# Altium integrated library TI Power Management DC-DC Controller (External Switch).IntLib: 349 symbols (part 27 of 28)
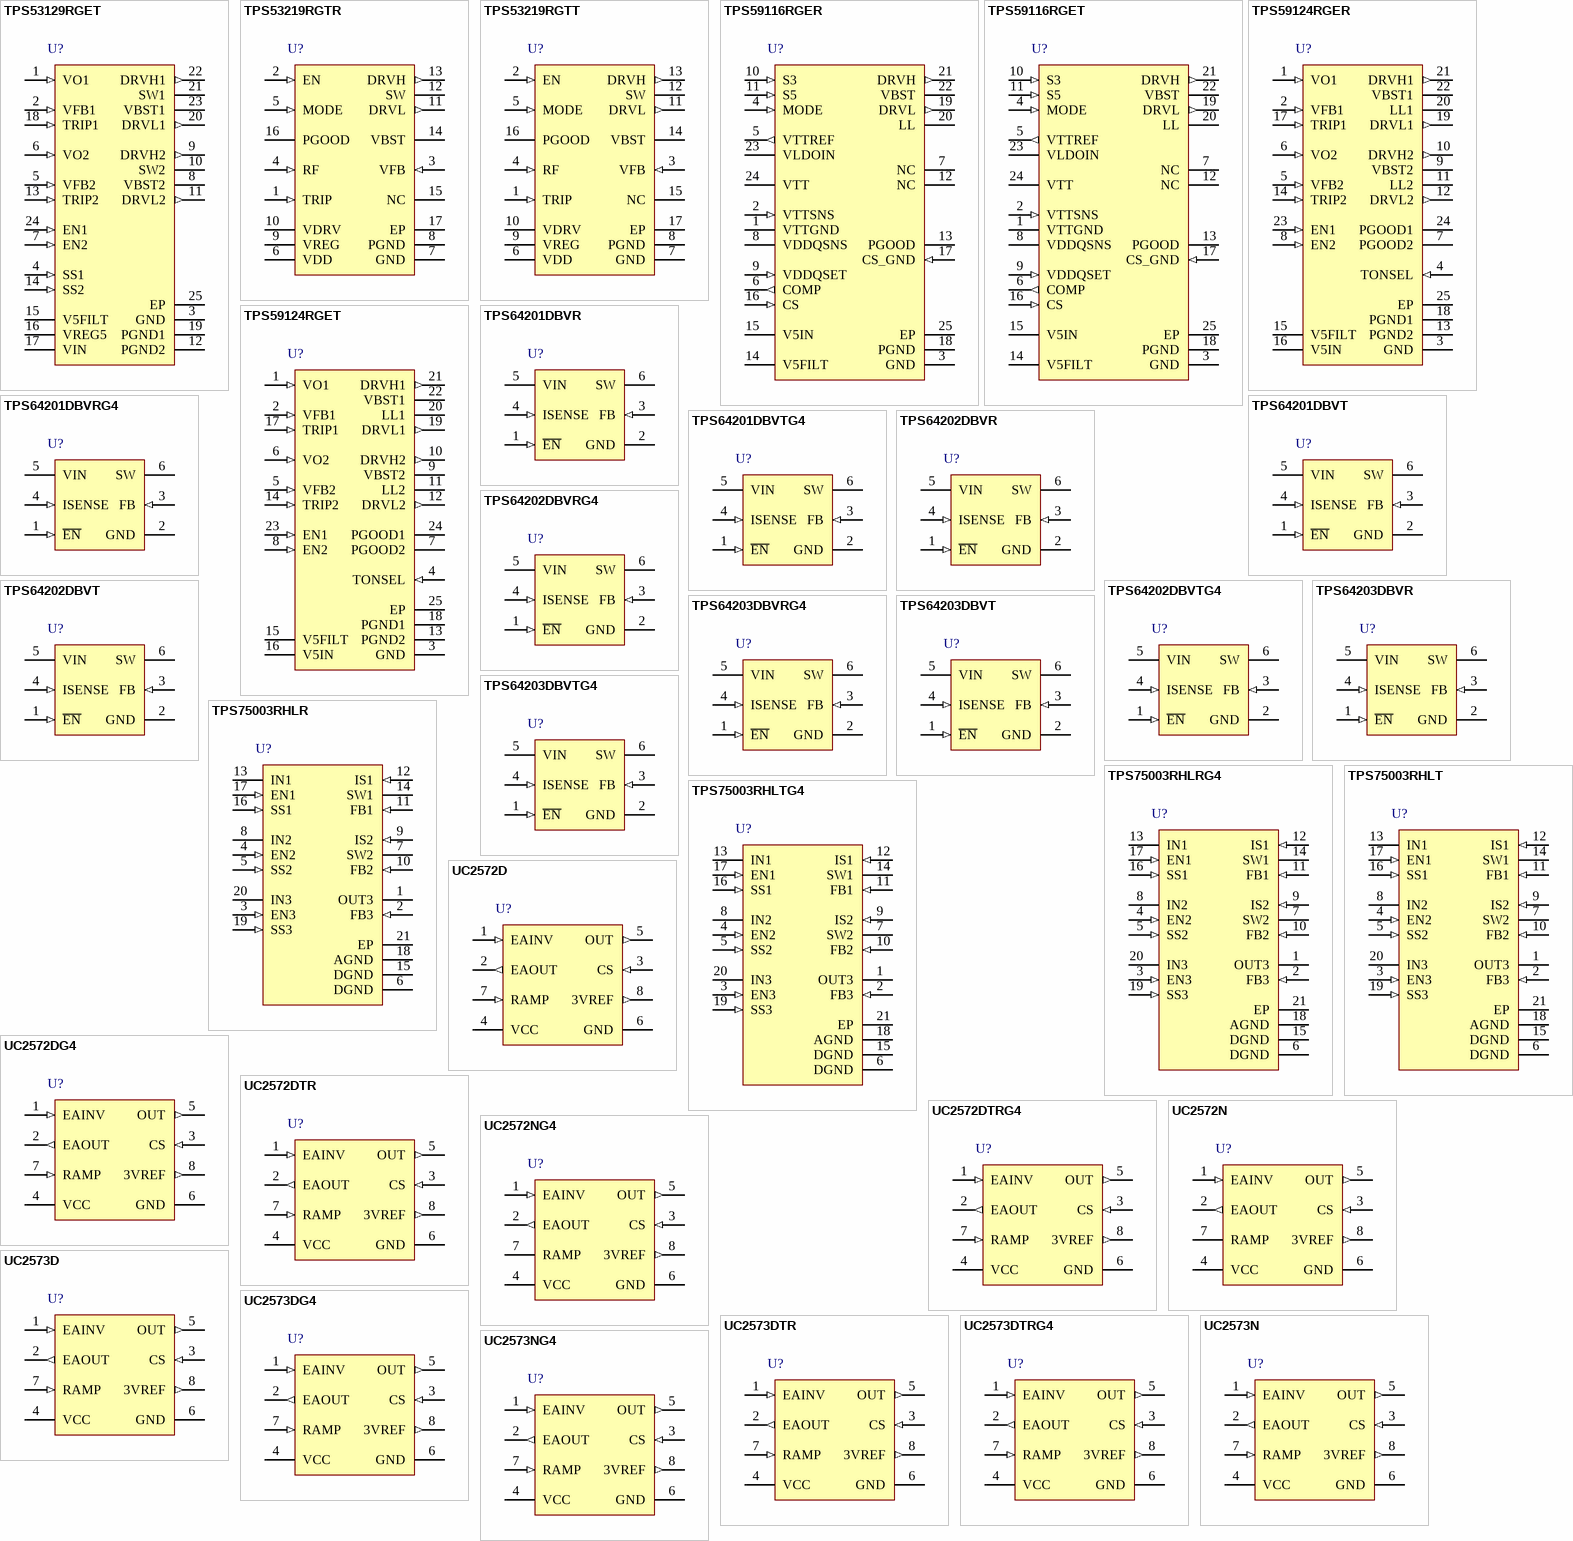
[diagram p40: symbols TPS53129RGET to UC2573NG4]

## UC2572DTR
designator U?
Negative Output Flyback Pulse Width Modulator, 100 % Duty Cycle, 4.2 to 35 V, -40 to 85 degC, 8-pin SOIC (D), Green (RoHS & no Sb/Br); Manufacturer: Texas Instruments; PartNumber: UC2572DTR; Duty Cycle(Max)(%): 100; Iout(Max)(A): 0.5; Regulated Outputs(#): 1; SubFamily: Buck-Boost, Inverting Switching Controller; Switching Frequency(Max)(kHz): 300; Vin(Max)(V): 35; Vin(Min)(V): 4.2; Vout(Max)(V): -1; Vout(Min)(V): -70; DatasheetVersion: SLUS275A; PackageVersion: revM, Jun-2011; PackageReference: D8; PackageDescription: 8-Pin Plastic Small Outline Integrated Circuit, 4.9 x 3.9 mm, Pitch 1.27 mm Pitch; Supplier 1: Digi-Key; Supplier Part Number 1: UC2572DTR-ND; Supplier 2: Newark; Supplier Part Number 2: 77C2813; Supplier 3: Mouser; Supplier Part Number 3: 595-UC2572DTR; Eco-Plan: Green (RoHS & no Sb/Br); Topology: Flyback; Mounting Technology: Surface Mount; Code_JEDEC: MS-012AA; ComponentLink1Description: Datasheet; ComponentLink1URL: http://www.ti.com/general/docs/lit/getliterature.tsp?genericPartNumber=UC2572&fileType=pdf; ComponentLink2Description: Package Specification; ComponentLink2URL: http://www.ti.com/litv/pdf/msoi002j
footprint D8_N (SOIC, 8-Leads, Body 4.9x3.9mm, Pitch 1.27mm, IPC Medium Density)
footprint D8_L (SOIC, 8-Leads, Body 4.9x3.9mm, Pitch 1.27mm, IPC High Density)
footprint D8_M (SOIC, 8-Leads, Body 4.9x3.9mm, Pitch 1.27mm, IPC Low Density)
pins: 1 EAINV (in) "Inverting input to error amplifier. Summing junction for 3VREF and VOUT sense. The non-inverting input of the error amplifier is internally connected to GND. This pin will source a maximum of 1mA.", 2 EAOUT (out) "Output of error amplifier. Use EAOUT and EAINV for loop compensation components.", 3 CS (in) "Current limit sense pin. Connect to a ground referenced current sense resistor in series with the flyback inductor. OUT will be held high (PMOS switch off) if CS exceeds 0.2V.", 4 VCC (power) "Input voltage supply to chip. Range is 4.75 to 30V. Bypass with a 1uF capacitor", 5 OUT (out) "Gate drive for external PMOS switch connected between VCC and the flyback inductor. OUT drives the gate of the PMOS switch between VCC and GND", 6 GND (power) "Circuit Ground.", 7 RAMP (in) "Oscillator and ramp for pulse width modulator.Frequency is set by a capacitor to GND by the equation F=1/15K·CRAMP Recommended operating frequency range is 10kHz to 200kHz.", 8 3VREF (out) "Precision 3V reference. Bypass with 100nF capacitor to GND."

## UC2572DTRG4
designator U?
Negative Output Flyback Pulse Width Modulator, 100 % Duty Cycle, 4.2 to 35 V, -40 to 85 degC, 8-pin SOIC (D), Green (RoHS & no Sb/Br); Manufacturer: Texas Instruments; PartNumber: UC2572DTRG4; Duty Cycle(Max)(%): 100; Iout(Max)(A): 0.5; Regulated Outputs(#): 1; SubFamily: Buck-Boost, Inverting Switching Controller; Switching Frequency(Max)(kHz): 300; Vin(Max)(V): 35; Vin(Min)(V): 4.2; Vout(Max)(V): -1; Vout(Min)(V): -70; DatasheetVersion: SLUS275A; PackageVersion: revM, Jun-2011; PackageReference: D8; PackageDescription: 8-Pin Plastic Small Outline Integrated Circuit, 4.9 x 3.9 mm, Pitch 1.27 mm Pitch; Supplier 1: Digi-Key; Supplier Part Number 1: UC2572DTRG4-ND; Supplier 2: Newark; Supplier Part Number 2: 54K2249; Supplier 3: Mouser; Supplier Part Number 3: 595-UC2572DTRG4; Eco-Plan: Green (RoHS & no Sb/Br); Topology: Flyback; Mounting Technology: Surface Mount; Code_JEDEC: MS-012AA; ComponentLink1Description: Datasheet; ComponentLink1URL: http://www.ti.com/general/docs/lit/getliterature.tsp?genericPartNumber=UC2572&fileType=pdf; ComponentLink2Description: Package Specification; ComponentLink2URL: http://www.ti.com/litv/pdf/msoi002j
footprint D8_N (SOIC, 8-Leads, Body 4.9x3.9mm, Pitch 1.27mm, IPC Medium Density)
footprint D8_L (SOIC, 8-Leads, Body 4.9x3.9mm, Pitch 1.27mm, IPC High Density)
footprint D8_M (SOIC, 8-Leads, Body 4.9x3.9mm, Pitch 1.27mm, IPC Low Density)
pins: 1 EAINV (in) "Inverting input to error amplifier. Summing junction for 3VREF and VOUT sense. The non-inverting input of the error amplifier is internally connected to GND. This pin will source a maximum of 1mA.", 2 EAOUT (out) "Output of error amplifier. Use EAOUT and EAINV for loop compensation components.", 3 CS (in) "Current limit sense pin. Connect to a ground referenced current sense resistor in series with the flyback inductor. OUT will be held high (PMOS switch off) if CS exceeds 0.2V.", 4 VCC (power) "Input voltage supply to chip. Range is 4.75 to 30V. Bypass with a 1uF capacitor", 5 OUT (out) "Gate drive for external PMOS switch connected between VCC and the flyback inductor. OUT drives the gate of the PMOS switch between VCC and GND", 6 GND (power) "Circuit Ground.", 7 RAMP (in) "Oscillator and ramp for pulse width modulator.Frequency is set by a capacitor to GND by the equation F=1/15K·CRAMP Recommended operating frequency range is 10kHz to 200kHz.", 8 3VREF (out) "Precision 3V reference. Bypass with 100nF capacitor to GND."

## UC2572N
designator U?
Negative Output Flyback Pulse Width Modulator, 100 % Duty Cycle, 4.2 to 35 V, -40 to 85 degC, 8-pin PDIP (P), Green (RoHS & no Sb/Br); Manufacturer: Texas Instruments; PartNumber: UC2572N; Duty Cycle(Max)(%): 100; Iout(Max)(A): 0.5; Regulated Outputs(#): 1; SubFamily: Buck-Boost, Inverting Switching Controller; Switching Frequency(Max)(kHz): 300; Vin(Max)(V): 35; Vin(Min)(V): 4.2; Vout(Max)(V): -1; Vout(Min)(V): -70; DatasheetVersion: SLUS275A; PackageVersion: revE, Apr-2010; PackageReference: P8; PackageDescription: 8-Pin Plastic Dual-In-Line Package, Row Spacing 7.62 mm, Pitch 2.54 mm; Supplier 1: Digi-Key; Supplier Part Number 1: 296-11157-5-ND; Supplier 2: Newark; Supplier Part Number 2: 77C2814; Supplier 3: Mouser; Supplier Part Number 3: 595-UC2572N; Eco-Plan: Green (RoHS & no Sb/Br); Topology: Flyback; Mounting Technology: Through Hole; Code_JEDEC: MS-001-BA; ComponentLink1Description: Datasheet; ComponentLink1URL: http://www.ti.com/general/docs/lit/getliterature.tsp?genericPartNumber=UC2572&fileType=pdf; ComponentLink2Description: Package Specification; ComponentLink2URL: http://www.ti.com/lit/ml/mpdi001b/mpdi001b.pdf
footprint P8 (DIP, 8-Leads, Row Spacing 7.62mm, Pitch 2.54mm, Body 9.6x6.4mm)
pins: 1 EAINV (in) "Inverting input to error amplifier. Summing junction for 3VREF and VOUT sense. The non-inverting input of the error amplifier is internally connected to GND. This pin will source a maximum of 1mA.", 2 EAOUT (out) "Output of error amplifier. Use EAOUT and EAINV for loop compensation components.", 3 CS (in) "Current limit sense pin. Connect to a ground referenced current sense resistor in series with the flyback inductor. OUT will be held high (PMOS switch off) if CS exceeds 0.2V.", 4 VCC (power) "Input voltage supply to chip. Range is 4.75 to 30V. Bypass with a 1µF capacitor.", 5 OUT (out) "Gate drive for external PMOS switch connected between VCC and the flyback inductor. OUT drives the gate of the PMOS switch between VCC and GND.", 6 GND (power) "Circuit Ground.", 7 RAMP "Oscillator and ramp for pulse width modulator.Recommended operating frequency range is 10kHz to 200kHz.", 8 3VREF (out) "Precision 3V reference. Bypass with 100nF capacitor to GND."

## UC2572NG4
designator U?
Negative Output Flyback Pulse Width Modulator, 100 % Duty Cycle, 4.2 to 35 V, -40 to 85 degC, 8-pin PDIP (P), Green (RoHS & no Sb/Br); Manufacturer: Texas Instruments; PartNumber: UC2572NG4; Duty Cycle(Max)(%): 100; Iout(Max)(A): 0.5; Regulated Outputs(#): 1; SubFamily: Buck-Boost, Inverting Switching Controller; Switching Frequency(Max)(kHz): 300; Vin(Max)(V): 35; Vin(Min)(V): 4.2; Vout(Max)(V): -1; Vout(Min)(V): -70; DatasheetVersion: SLUS275A; PackageVersion: revE, Apr-2010; PackageReference: P8; PackageDescription: 8-Pin Plastic Dual-In-Line Package, Row Spacing 7.62 mm, Pitch 2.54 mm; Supplier 1: Digi-Key; Supplier Part Number 1: UC2572NG4-ND; Supplier 2: Newark; Supplier Part Number 2: 58K7102; Supplier 3: Mouser; Supplier Part Number 3: 595-UC2572NG4; Eco-Plan: Green (RoHS & no Sb/Br); Topology: Flyback; Mounting Technology: Through Hole; Code_JEDEC: MS-001-BA; ComponentLink1Description: Datasheet; ComponentLink1URL: http://www.ti.com/general/docs/lit/getliterature.tsp?genericPartNumber=UC2572&fileType=pdf; ComponentLink2Description: Package Specification; ComponentLink2URL: http://www.ti.com/lit/ml/mpdi001b/mpdi001b.pdf
footprint P8 (DIP, 8-Leads, Row Spacing 7.62mm, Pitch 2.54mm, Body 9.6x6.4mm)
pins: 1 EAINV (in) "Inverting input to error amplifier. Summing junction for 3VREF and VOUT sense. The non-inverting input of the error amplifier is internally connected to GND. This pin will source a maximum of 1mA.", 2 EAOUT (out) "Output of error amplifier. Use EAOUT and EAINV for loop compensation components.", 3 CS (in) "Current limit sense pin. Connect to a ground referenced current sense resistor in series with the flyback inductor. OUT will be held high (PMOS switch off) if CS exceeds 0.2V.", 4 VCC (power) "Input voltage supply to chip. Range is 4.75 to 30V. Bypass with a 1µF capacitor.", 5 OUT (out) "Gate drive for external PMOS switch connected between VCC and the flyback inductor. OUT drives the gate of the PMOS switch between VCC and GND.", 6 GND (power) "Circuit Ground.", 7 RAMP "Oscillator and ramp for pulse width modulator.Recommended operating frequency range is 10kHz to 200kHz.", 8 3VREF (out) "Precision 3V reference. Bypass with 100nF capacitor to GND."

## UC2573D
designator U?
Buck Pulse Width Modulator Stepdown Voltage Regulator, 100 % Duty Cycle, 4.2 to 35 V, -40 to 85 degC, 8-pin SOIC (D), Green (RoHS & no Sb/Br); Manufacturer: Texas Instruments; PartNumber: UC2573D; Duty Cycle(Max)(%): 100; Iout(Max)(A): 0.5; Regulated Outputs(#): 1; SubFamily: Step-Down Controller; Switching Frequency(Max)(kHz): 300; Vin(Max)(V): 35; Vin(Min)(V): 4.2; Vout(Max)(V): 30; Vout(Min)(V): 1.5; DatasheetVersion: SLUS346A; PackageVersion: revM, Jun-2011; PackageReference: D8; PackageDescription: 8-Pin Plastic Small Outline Integrated Circuit, 4.9 x 3.9 mm, Pitch 1.27 mm Pitch; Supplier 1: Digi-Key; Supplier Part Number 1: 296-2793-5-ND; Supplier 2: Newark; Supplier Part Number 2: 77C2815; Supplier 3: Mouser; Supplier Part Number 3: 595-UC2573D; Eco-Plan: Green (RoHS & no Sb/Br); Topology: Buck; Mounting Technology: Surface Mount; Code_JEDEC: MS-012AA; ComponentLink1Description: Datasheet; ComponentLink1URL: http://www.ti.com/general/docs/lit/getliterature.tsp?genericPartNumber=UC2573&fileType=pdf; ComponentLink2Description: Package Specification; ComponentLink2URL: http://www.ti.com/litv/pdf/msoi002j
footprint D8_N (SOIC, 8-Leads, Body 4.9x3.9mm, Pitch 1.27mm, IPC Medium Density)
footprint D8_L (SOIC, 8-Leads, Body 4.9x3.9mm, Pitch 1.27mm, IPC High Density)
footprint D8_M (SOIC, 8-Leads, Body 4.9x3.9mm, Pitch 1.27mm, IPC Low Density)
pins: 1 EAINV (in) "Invering input to error amplifier.VOUT sense feedback connected to this  pin. The non-inverting input of the error amplifier is internally connected to: 3VREF/2*Volts. Connecting the ENINV pin to an external voltage greater (See Datasheet)", 2 EAOUT (out) "Output of error amplifier.Use EAOUT and EAINV for loop compensation components.", 3 CS (in) "Peak current limit sense pin. Sense the current across a current sense resistor place between VCC and source of the PMOS Back switch. OUT will be held high (PMOS buck switch off) if VCC-CS exceeds 0.4V", 4 VCC (power) "Input voltage supply to supply to chip.Range is 4.75V to 30V.Bypass with a 1 uF capacitor", 5 OUT (out) "Gate drive for external PMOS  switch connected between VCC and the flyback inductor.OUT drives the gate of the PMOS  switch between VCC and GND", 6 GND (power) "Circuit Ground", 7 RAMP (in) "Oscillator and ramp for pulse width modulator. Frequency is set by a capacitor to GND by the equation F=1/(15K*CRAMP) Recommended  operating frequency range is 10KHz to 200KHz.", 8 3VREF (out) "Precision 3V reference Bypass with 100nF capacitor."

## UC2573DG4
designator U?
Buck Pulse Width Modulator Stepdown Voltage Regulator, 100 % Duty Cycle, 4.2 to 35 V, -40 to 85 degC, 8-pin SOIC (D), Green (RoHS & no Sb/Br); Manufacturer: Texas Instruments; PartNumber: UC2573DG4; Duty Cycle(Max)(%): 100; Iout(Max)(A): 0.5; Regulated Outputs(#): 1; SubFamily: Step-Down Controller; Switching Frequency(Max)(kHz): 300; Vin(Max)(V): 35; Vin(Min)(V): 4.2; Vout(Max)(V): 30; Vout(Min)(V): 1.5; DatasheetVersion: SLUS346A; PackageVersion: revM, Jun-2011; PackageReference: D8; PackageDescription: 8-Pin Plastic Small Outline Integrated Circuit, 4.9 x 3.9 mm, Pitch 1.27 mm Pitch; Supplier 1: Digi-Key; Supplier Part Number 1: UC2573DG4-ND; Supplier 2: Newark; Supplier Part Number 2: 61K1982; Supplier 3: Mouser; Supplier Part Number 3: 595-UC2573DG4; Eco-Plan: Green (RoHS & no Sb/Br); Topology: Buck; Mounting Technology: Surface Mount; Code_JEDEC: MS-012AA; ComponentLink1Description: Datasheet; ComponentLink1URL: http://www.ti.com/general/docs/lit/getliterature.tsp?genericPartNumber=UC2573&fileType=pdf; ComponentLink2Description: Package Specification; ComponentLink2URL: http://www.ti.com/litv/pdf/msoi002j
footprint D8_N (SOIC, 8-Leads, Body 4.9x3.9mm, Pitch 1.27mm, IPC Medium Density)
footprint D8_L (SOIC, 8-Leads, Body 4.9x3.9mm, Pitch 1.27mm, IPC High Density)
footprint D8_M (SOIC, 8-Leads, Body 4.9x3.9mm, Pitch 1.27mm, IPC Low Density)
pins: 1 EAINV (in) "Invering input to error amplifier.VOUT sense feedback connected to this  pin. The non-inverting input of the error amplifier is internally connected to: 3VREF/2*Volts. Connecting the ENINV pin to an external voltage greater (See Datasheet)", 2 EAOUT (out) "Output of error amplifier.Use EAOUT and EAINV for loop compensation components.", 3 CS (in) "Peak current limit sense pin. Sense the current across a current sense resistor place between VCC and source of the PMOS Back switch. OUT will be held high (PMOS buck switch off) if VCC-CS exceeds 0.4V", 4 VCC (power) "Input voltage supply to supply to chip.Range is 4.75V to 30V.Bypass with a 1 uF capacitor", 5 OUT (out) "Gate drive for external PMOS  switch connected between VCC and the flyback inductor.OUT drives the gate of the PMOS  switch between VCC and GND", 6 GND (power) "Circuit Ground", 7 RAMP (in) "Oscillator and ramp for pulse width modulator. Frequency is set by a capacitor to GND by the equation F=1/(15K*CRAMP) Recommended  operating frequency range is 10KHz to 200KHz.", 8 3VREF (out) "Precision 3V reference Bypass with 100nF capacitor."

## UC2573DTR
designator U?
Buck Pulse Width Modulator Stepdown Voltage Regulator, 100 % Duty Cycle, 4.2 to 35 V, -40 to 85 degC, 8-pin SOIC (D), Green (RoHS & no Sb/Br); Manufacturer: Texas Instruments; PartNumber: UC2573DTR; Duty Cycle(Max)(%): 100; Iout(Max)(A): 0.5; Regulated Outputs(#): 1; SubFamily: Step-Down Controller; Switching Frequency(Max)(kHz): 300; Vin(Max)(V): 35; Vin(Min)(V): 4.2; Vout(Max)(V): 30; Vout(Min)(V): 1.5; DatasheetVersion: SLUS346A; PackageVersion: revM, Jun-2011; PackageReference: D8; PackageDescription: 8-Pin Plastic Small Outline Integrated Circuit, 4.9 x 3.9 mm, Pitch 1.27 mm Pitch; Supplier 1: Digi-Key; Supplier Part Number 1: UC2573DTR-ND; Supplier 2: Newark; Supplier Part Number 2: 77C2816; Supplier 3: Mouser; Supplier Part Number 3: 595-UC2573DTR; Eco-Plan: Green (RoHS & no Sb/Br); Topology: Buck; Mounting Technology: Surface Mount; Code_JEDEC: MS-012AA; ComponentLink1Description: Datasheet; ComponentLink1URL: http://www.ti.com/general/docs/lit/getliterature.tsp?genericPartNumber=UC2573&fileType=pdf; ComponentLink2Description: Package Specification; ComponentLink2URL: http://www.ti.com/litv/pdf/msoi002j
footprint D8_N (SOIC, 8-Leads, Body 4.9x3.9mm, Pitch 1.27mm, IPC Medium Density)
footprint D8_L (SOIC, 8-Leads, Body 4.9x3.9mm, Pitch 1.27mm, IPC High Density)
footprint D8_M (SOIC, 8-Leads, Body 4.9x3.9mm, Pitch 1.27mm, IPC Low Density)
pins: 1 EAINV (in) "Invering input to error amplifier.VOUT sense feedback connected to this  pin. The non-inverting input of the error amplifier is internally connected to: 3VREF/2*Volts. Connecting the ENINV pin to an external voltage greater (See Datasheet)", 2 EAOUT (out) "Output of error amplifier.Use EAOUT and EAINV for loop compensation components.", 3 CS (in) "Peak current limit sense pin. Sense the current across a current sense resistor place between VCC and source of the PMOS Back switch. OUT will be held high (PMOS buck switch off) if VCC-CS exceeds 0.4V", 4 VCC (power) "Input voltage supply to supply to chip.Range is 4.75V to 30V.Bypass with a 1 uF capacitor", 5 OUT (out) "Gate drive for external PMOS  switch connected between VCC and the flyback inductor.OUT drives the gate of the PMOS  switch between VCC and GND", 6 GND (power) "Circuit Ground", 7 RAMP (in) "Oscillator and ramp for pulse width modulator. Frequency is set by a capacitor to GND by the equation F=1/(15K*CRAMP) Recommended  operating frequency range is 10KHz to 200KHz.", 8 3VREF (out) "Precision 3V reference Bypass with 100nF capacitor."

## UC2573DTRG4
designator U?
Buck Pulse Width Modulator Stepdown Voltage Regulator, 100 % Duty Cycle, 4.2 to 35 V, -40 to 85 degC, 8-pin SOIC (D), Green (RoHS & no Sb/Br); Manufacturer: Texas Instruments; PartNumber: UC2573DTRG4; Duty Cycle(Max)(%): 100; Iout(Max)(A): 0.5; Regulated Outputs(#): 1; SubFamily: Step-Down Controller; Switching Frequency(Max)(kHz): 300; Vin(Max)(V): 35; Vin(Min)(V): 4.2; Vout(Max)(V): 30; Vout(Min)(V): 1.5; DatasheetVersion: SLUS346A; PackageVersion: revM, Jun-2011; PackageReference: D8; PackageDescription: 8-Pin Plastic Small Outline Integrated Circuit, 4.9 x 3.9 mm, Pitch 1.27 mm Pitch; Supplier 1: Digi-Key; Supplier Part Number 1: UC2573DTRG4-ND; Supplier 2: Newark; Supplier Part Number 2: 24K6359; Supplier 3: Mouser; Supplier Part Number 3: 595-UC2573DTRG4; Eco-Plan: Green (RoHS & no Sb/Br); Topology: Buck; Mounting Technology: Surface Mount; Code_JEDEC: MS-012AA; ComponentLink1Description: Datasheet; ComponentLink1URL: http://www.ti.com/general/docs/lit/getliterature.tsp?genericPartNumber=UC2573&fileType=pdf; ComponentLink2Description: Package Specification; ComponentLink2URL: http://www.ti.com/litv/pdf/msoi002j
footprint D8_N (SOIC, 8-Leads, Body 4.9x3.9mm, Pitch 1.27mm, IPC Medium Density)
footprint D8_L (SOIC, 8-Leads, Body 4.9x3.9mm, Pitch 1.27mm, IPC High Density)
footprint D8_M (SOIC, 8-Leads, Body 4.9x3.9mm, Pitch 1.27mm, IPC Low Density)
pins: 1 EAINV (in) "Invering input to error amplifier.VOUT sense feedback connected to this  pin. The non-inverting input of the error amplifier is internally connected to: 3VREF/2*Volts. Connecting the ENINV pin to an external voltage greater (See Datasheet)", 2 EAOUT (out) "Output of error amplifier.Use EAOUT and EAINV for loop compensation components.", 3 CS (in) "Peak current limit sense pin. Sense the current across a current sense resistor place between VCC and source of the PMOS Back switch. OUT will be held high (PMOS buck switch off) if VCC-CS exceeds 0.4V", 4 VCC (power) "Input voltage supply to supply to chip.Range is 4.75V to 30V.Bypass with a 1 uF capacitor", 5 OUT (out) "Gate drive for external PMOS  switch connected between VCC and the flyback inductor.OUT drives the gate of the PMOS  switch between VCC and GND", 6 GND (power) "Circuit Ground", 7 RAMP (in) "Oscillator and ramp for pulse width modulator. Frequency is set by a capacitor to GND by the equation F=1/(15K*CRAMP) Recommended  operating frequency range is 10KHz to 200KHz.", 8 3VREF (out) "Precision 3V reference Bypass with 100nF capacitor."

## UC2573N
designator U?
Buck Pulse Width Modulator Stepdown Voltage Regulator, 100 % Duty Cycle, 4.2 to 35 V, -40 to 85 degC, 8-pin PDIP (P), Green (RoHS & no Sb/Br); Manufacturer: Texas Instruments; PartNumber: UC2573N; Duty Cycle(Max)(%): 100; Iout(Max)(A): 0.5; Regulated Outputs(#): 1; SubFamily: Step-Down Controller; Switching Frequency(Max)(kHz): 300; Vin(Max)(V): 35; Vin(Min)(V): 4.2; Vout(Max)(V): 30; Vout(Min)(V): 1.5; DatasheetVersion: SLUS346A; PackageVersion: revE, Apr-2010; PackageReference: P8; PackageDescription: 8-Pin Plastic Dual-In-Line Package, Row Spacing 7.62 mm, Pitch 2.54 mm; Supplier 1: Digi-Key; Supplier Part Number 1: 296-11158-5-ND; Supplier 2: Newark; Supplier Part Number 2: 34C2580; Supplier 3: Mouser; Supplier Part Number 3: 595-UC2573N; Eco-Plan: Green (RoHS & no Sb/Br); Topology: Buck; Mounting Technology: Through Hole; Code_JEDEC: MS-001-BA; ComponentLink1Description: Datasheet; ComponentLink1URL: http://www.ti.com/general/docs/lit/getliterature.tsp?genericPartNumber=UC2573&fileType=pdf; ComponentLink2Description: Package Specification; ComponentLink2URL: http://www.ti.com/lit/ml/mpdi001b/mpdi001b.pdf
footprint P8 (DIP, 8-Leads, Row Spacing 7.62mm, Pitch 2.54mm, Body 9.6x6.4mm)
pins: 1 EAINV (in) "Inverting input to error  amplifier .VOUT sense feedback connected to this pin. The non-inverting input of the error amplifier is internally connected to:3vref/2 Volts.Conencting the EAINV pin to an external voltage greater (See Datasheet)", 2 EAOUT (out) "Output of error amplifier.Use EAOUT and EAINV for loop compensation components.", 3 CS (in) "Peak current limit sense pin. Senses the current across a current sense resistor placed between VCC and source of the PMOS Buck switch.OUT will be held high (PMOS buck switch off)if VCC-CS exceeds 0.4V.", 4 VCC (power) "input voltage supply to chip, Range is 4.75V to 30V .Bypass with a 1uF capacitor", 5 OUT (out) "Gate drive for external PMOS switch connected between VCC and the flyback inductor.OUT drives the gate of the PMOS switch between VCC and GND.", 6 GND (power) "Circuit Ground", 7 RAMP (in) "Oscillator and ramp for pulse width modulator. Frequency is set by a capacitor to GND by the equation Recommended operating frequency range is 10KHZ to 200KHZ", 8 3VREF (out) "Precision 3V refrence.Bypass with 100 nF capacitor."

## UC2573NG4
designator U?
Buck Pulse Width Modulator Stepdown Voltage Regulator, 100 % Duty Cycle, 4.2 to 35 V, -40 to 85 degC, 8-pin PDIP (P), Green (RoHS & no Sb/Br); Manufacturer: Texas Instruments; PartNumber: UC2573NG4; Duty Cycle(Max)(%): 100; Iout(Max)(A): 0.5; Regulated Outputs(#): 1; SubFamily: Step-Down Controller; Switching Frequency(Max)(kHz): 300; Vin(Max)(V): 35; Vin(Min)(V): 4.2; Vout(Max)(V): 30; Vout(Min)(V): 1.5; DatasheetVersion: SLUS346A; PackageVersion: revE, Apr-2010; PackageReference: P8; PackageDescription: 8-Pin Plastic Dual-In-Line Package, Row Spacing 7.62 mm, Pitch 2.54 mm; Supplier 1: Digi-Key; Supplier Part Number 1: UC2573NG4-ND; Supplier 2: Newark; Supplier Part Number 2: 81K4512; Supplier 3: Mouser; Supplier Part Number 3: 595-UC2573NG4; Eco-Plan: Green (RoHS & no Sb/Br); Topology: Buck; Mounting Technology: Through Hole; Code_JEDEC: MS-001-BA; ComponentLink1Description: Datasheet; ComponentLink1URL: http://www.ti.com/general/docs/lit/getliterature.tsp?genericPartNumber=UC2573&fileType=pdf; ComponentLink2Description: Package Specification; ComponentLink2URL: http://www.ti.com/lit/ml/mpdi001b/mpdi001b.pdf
footprint P8 (DIP, 8-Leads, Row Spacing 7.62mm, Pitch 2.54mm, Body 9.6x6.4mm)
pins: 1 EAINV (in) "Inverting input to error  amplifier .VOUT sense feedback connected to this pin. The non-inverting input of the error amplifier is internally connected to:3vref/2 Volts.Conencting the EAINV pin to an external voltage greater (See Datasheet)", 2 EAOUT (out) "Output of error amplifier.Use EAOUT and EAINV for loop compensation components.", 3 CS (in) "Peak current limit sense pin. Senses the current across a current sense resistor placed between VCC and source of the PMOS Buck switch.OUT will be held high (PMOS buck switch off)if VCC-CS exceeds 0.4V.", 4 VCC (power) "input voltage supply to chip, Range is 4.75V to 30V .Bypass with a 1uF capacitor", 5 OUT (out) "Gate drive for external PMOS switch connected between VCC and the flyback inductor.OUT drives the gate of the PMOS switch between VCC and GND.", 6 GND (power) "Circuit Ground", 7 RAMP (in) "Oscillator and ramp for pulse width modulator. Frequency is set by a capacitor to GND by the equation Recommended operating frequency range is 10KHZ to 200KHZ", 8 3VREF (out) "Precision 3V refrence.Bypass with 100 nF capacitor."

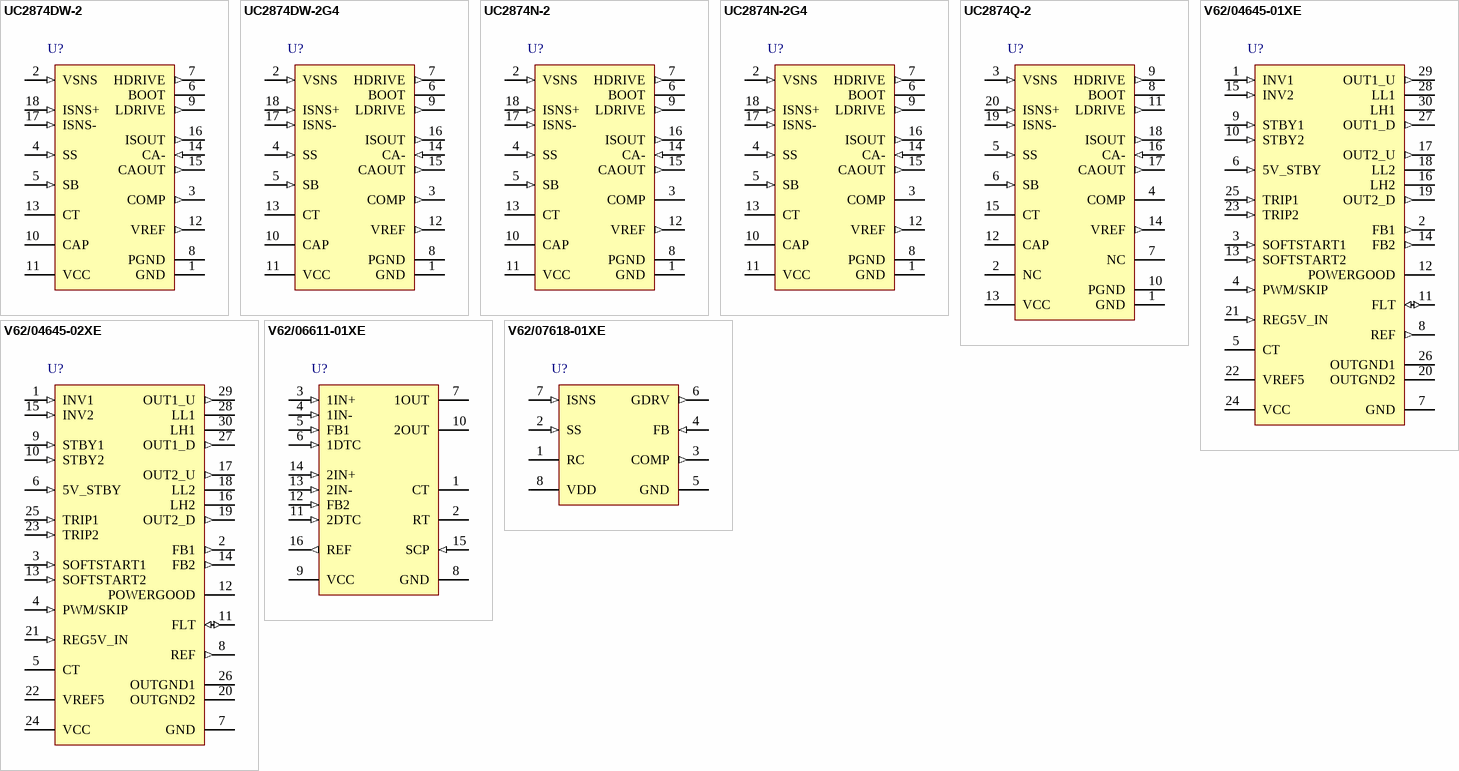
[diagram p14: symbols UC2874DW-2 to V62/07618-01XE]

## UC2874DW-2
designator U?
High Efficiency, Synchronous, Step-down (Buck) Controller, 92 % Duty Cycle, 10 to 36 V, -40 to 85 degC, 18-pin SOIC (DW), Green (RoHS & no Sb/Br); Manufacturer: Texas Instruments; PartNumber: UC2874DW-2; Duty Cycle(Max)(%): 92; Iout(Max)(A): 0.5; Regulated Outputs(#): 1; SubFamily: Step-Down Controller; Switching Frequency(Max)(kHz): 100; Synchronous Rectification: TRUE; Vin(Max)(V): 36; Vin(Min)(V): 10; Vout(Max)(V): 30; Vout(Min)(V): 2.5; DatasheetVersion: SLUS286A; PackageVersion: revG, Jan-2011; PackageReference: DW18; PackageDescription: 18-Pin Plastic Small Outline Integrated Circuit, 11.6 x 7.5 mm, Pitch 1.27 mm Pitch; Supplier 1: Digi-Key; Supplier Part Number 1: UC2874DW-2-ND; Supplier 2: Mouser; Supplier Part Number 2: 595-UC2874DW-2; Eco-Plan: Green (RoHS & no Sb/Br); Topology: Buck; Mounting Technology: Surface Mount; Code_JEDEC: MS-013-AB; ComponentLink1Description: Datasheet; ComponentLink1URL: http://www.ti.com/general/docs/lit/getliterature.tsp?genericPartNumber=UC2874-2&fileType=pdf; ComponentLink2Description: Package Specification; ComponentLink2URL: http://www.ti.com/lit/ml/mpds172a/mpds172a.pdf
footprint DW18_N (SOIC, 18-Leads, Body 11.6x7.5mm, Pitch 1.27mm, IPC Medium Density)
footprint DW18_L (SOIC, 18-Leads, Body 11.6x7.5mm, Pitch 1.27mm, IPC High Density)
footprint DW18_M (SOIC, 18-Leads, Body 11.6x7.5mm, Pitch 1.27mm, IPC Low Density)
pins: 1 GND (power) "All voltages are measured with respect to this pin. All bypass capacitors and timing components except those listed under the PGND pin description should be connected to this pin. Component leads should be as short and (See Datasheet)", 2 VSNS (in) "This pin is the inverting input of the voltage amplifier and serves as the output voltage feedback point for the synchronous regulator. It senses the output voltage through a voltage divider which produces a nominal 2.0V.", 3 COMP (out) "This is the output of the voltage amplifier. It provides the current command signal to the current amplifier. The voltage is clamped to approximately 3.2V", 4 SS (in) "A capacitor from this pin to GND in conjunction with an internal 10mA current source provides a soft start function for the IC. The voltage level on SS clamps the output of the voltage amplifier through an internal buffer, (See Datasheet)", 5 SB (in) "The voltage on SB sets the output current level at which standby mode is initiated. A voltage level from 0V to 1V programs the threshold from 50% to 0% of full load current. Full load current corresponds to a 100mV (See Datasheet)", 6 BOOT (power) "This pin provides the high side rail for the HDRIVE output. An external capacitor (CBST) is connected between this pin and the drain of the external low side MOSFET. When the low side MOSFET is conducting Cbst is charged to (See Datasheet)", 7 HDRIVE (out) "The outputs of the PWM are totem pole MOSFET gate drivers on the HDRIVE and LDRIVE pins. The outputs can sink approximately 1A and source 500mA. This characteristic optimizes the switching transitions by providing a (See Datasheet)", 8 PGND (power) "This is the high current ground for the IC. The MOSFET driver transistors are referenced to this ground. For best performance an external star ground connection should be made between this pin, the source of the low side (See Datasheet)", 9 LDRIVE (out) "The outputs of the PWM are totem pole MOSFET gate drivers on the HDRIVE and LDRIVE pins. The outputs can sink approximately 1A and source 500mA. This characteristic optimizes the switching transitions by providing a (See Datasheet)", 10 CAP "A capacitor is normally connected between this pin and GND providing bypass for the internal 11V regulator. Charge is transferred from this capacitor to CBST via an external diode when the low side MOSFET is conducting. If (See Datasheet)", 11 VCC (power) "Positive supply rail for the IC. Bypass this pin to GND with a 1mF low ESL/ESR ceramic capacitor. The maximum voltage for VCC is 36V. The turn on voltage level on VCC is 4.5V with 100mV of hysteresis for the UC3874-1 and 10V (See Datasheet)", 12 VREF (out) "VREF is the output of the precision reference. The output is capable of supplying 20mA to peripheral circuitry and is internally short circuit current limited. VREF is disabled and low whenever VCC is below the UVLO (See Datasheet)", 13 CT "A capacitor from CT to GND sets the PWM oscillator frequency according to the following equation:F=1/14250*CT.Use a high quality ceramic capacitor with low ESL and ESR for best results. A minimum CT value of 220pF insures (See Datasheet)", 14 CA- (in) "This is the inverting input to the current amplifier. Connect a series resistor and capacitor between this pin and CAOUT to set the current loop compensation. An input resistor between this pin and ISOUT provides the (See Datasheet)", 15 CAOUT (out) "This is the output of the wide bandwidth current amplifier and one of the inputs to the PWM duty cycle comparator. The output signal generated by this amplifier commands the PWM to force the correct duty cycle to maintain (See Datasheet)", 16 ISOUT (out) "This is the output of the X10 instrumentation amplifier. The output voltage on this pin is level shifted 2V above GND, such that if a 100mV differential input is applied across ISNS+ and ISNS-, the output will be 3V.", 17 ISNS- (in) "This is the inverting input to the X10 instrumentation amplifier. The common mode input range for this pin extends from GND to VCC. A low value resistor in series with the output inductor is connected between this pin and (See Datasheet)", 18 ISNS+ (in) "This is the non-inverting input to the X10 instrumentation amplifier. The common mode input range for this pin extends from GND to VCC."

## UC2874DW-2G4
designator U?
High Efficiency, Synchronous, Step-down (Buck) Controller, 92 % Duty Cycle, 10 to 36 V, -40 to 85 degC, 18-pin SOIC (DW), Green (RoHS & no Sb/Br); Manufacturer: Texas Instruments; PartNumber: UC2874DW-2G4; Duty Cycle(Max)(%): 92; Iout(Max)(A): 0.5; Regulated Outputs(#): 1; SubFamily: Step-Down Controller; Switching Frequency(Max)(kHz): 100; Synchronous Rectification: TRUE; Vin(Max)(V): 36; Vin(Min)(V): 10; Vout(Max)(V): 30; Vout(Min)(V): 2.5; DatasheetVersion: SLUS286A; PackageVersion: revG, Jan-2011; PackageReference: DW18; PackageDescription: 18-Pin Plastic Small Outline Integrated Circuit, 11.6 x 7.5 mm, Pitch 1.27 mm Pitch; Supplier 1: Digi-Key; Supplier Part Number 1: UC2874DW-2G4-ND; Supplier 2: Mouser; Supplier Part Number 2: 595-UC2874DW-2G4; Eco-Plan: Green (RoHS & no Sb/Br); Topology: Buck; Mounting Technology: Surface Mount; Code_JEDEC: MS-013-AB; ComponentLink1Description: Datasheet; ComponentLink1URL: http://www.ti.com/general/docs/lit/getliterature.tsp?genericPartNumber=UC2874-2&fileType=pdf; ComponentLink2Description: Package Specification; ComponentLink2URL: http://www.ti.com/lit/ml/mpds172a/mpds172a.pdf
footprint DW18_N (SOIC, 18-Leads, Body 11.6x7.5mm, Pitch 1.27mm, IPC Medium Density)
footprint DW18_L (SOIC, 18-Leads, Body 11.6x7.5mm, Pitch 1.27mm, IPC High Density)
footprint DW18_M (SOIC, 18-Leads, Body 11.6x7.5mm, Pitch 1.27mm, IPC Low Density)
pins: 1 GND (power) "All voltages are measured with respect to this pin. All bypass capacitors and timing components except those listed under the PGND pin description should be connected to this pin. Component leads should be as short and (See Datasheet)", 2 VSNS (in) "This pin is the inverting input of the voltage amplifier and serves as the output voltage feedback point for the synchronous regulator. It senses the output voltage through a voltage divider which produces a nominal 2.0V.", 3 COMP (out) "This is the output of the voltage amplifier. It provides the current command signal to the current amplifier. The voltage is clamped to approximately 3.2V", 4 SS (in) "A capacitor from this pin to GND in conjunction with an internal 10mA current source provides a soft start function for the IC. The voltage level on SS clamps the output of the voltage amplifier through an internal buffer, (See Datasheet)", 5 SB (in) "The voltage on SB sets the output current level at which standby mode is initiated. A voltage level from 0V to 1V programs the threshold from 50% to 0% of full load current. Full load current corresponds to a 100mV (See Datasheet)", 6 BOOT (power) "This pin provides the high side rail for the HDRIVE output. An external capacitor (CBST) is connected between this pin and the drain of the external low side MOSFET. When the low side MOSFET is conducting Cbst is charged to (See Datasheet)", 7 HDRIVE (out) "The outputs of the PWM are totem pole MOSFET gate drivers on the HDRIVE and LDRIVE pins. The outputs can sink approximately 1A and source 500mA. This characteristic optimizes the switching transitions by providing a (See Datasheet)", 8 PGND (power) "This is the high current ground for the IC. The MOSFET driver transistors are referenced to this ground. For best performance an external star ground connection should be made between this pin, the source of the low side (See Datasheet)", 9 LDRIVE (out) "The outputs of the PWM are totem pole MOSFET gate drivers on the HDRIVE and LDRIVE pins. The outputs can sink approximately 1A and source 500mA. This characteristic optimizes the switching transitions by providing a (See Datasheet)", 10 CAP "A capacitor is normally connected between this pin and GND providing bypass for the internal 11V regulator. Charge is transferred from this capacitor to CBST via an external diode when the low side MOSFET is conducting. If (See Datasheet)", 11 VCC (power) "Positive supply rail for the IC. Bypass this pin to GND with a 1mF low ESL/ESR ceramic capacitor. The maximum voltage for VCC is 36V. The turn on voltage level on VCC is 4.5V with 100mV of hysteresis for the UC3874-1 and 10V (See Datasheet)", 12 VREF (out) "VREF is the output of the precision reference. The output is capable of supplying 20mA to peripheral circuitry and is internally short circuit current limited. VREF is disabled and low whenever VCC is below the UVLO (See Datasheet)", 13 CT "A capacitor from CT to GND sets the PWM oscillator frequency according to the following equation:F=1/14250*CT.Use a high quality ceramic capacitor with low ESL and ESR for best results. A minimum CT value of 220pF insures (See Datasheet)", 14 CA- (in) "This is the inverting input to the current amplifier. Connect a series resistor and capacitor between this pin and CAOUT to set the current loop compensation. An input resistor between this pin and ISOUT provides the (See Datasheet)", 15 CAOUT (out) "This is the output of the wide bandwidth current amplifier and one of the inputs to the PWM duty cycle comparator. The output signal generated by this amplifier commands the PWM to force the correct duty cycle to maintain (See Datasheet)", 16 ISOUT (out) "This is the output of the X10 instrumentation amplifier. The output voltage on this pin is level shifted 2V above GND, such that if a 100mV differential input is applied across ISNS+ and ISNS-, the output will be 3V.", 17 ISNS- (in) "This is the inverting input to the X10 instrumentation amplifier. The common mode input range for this pin extends from GND to VCC. A low value resistor in series with the output inductor is connected between this pin and (See Datasheet)", 18 ISNS+ (in) "This is the non-inverting input to the X10 instrumentation amplifier. The common mode input range for this pin extends from GND to VCC."

## UC2874N-2
designator U?
High Efficiency, Synchronous, Step-down (Buck) Controller, 92 % Duty Cycle, 10 to 36 V, -40 to 85 degC, 18-pin PDIP (N), Green (RoHS & no Sb/Br); Manufacturer: Texas Instruments; PartNumber: UC2874N-2; Duty Cycle(Max)(%): 92; Iout(Max)(A): 0.5; Regulated Outputs(#): 1; SubFamily: Step-Down Controller; Switching Frequency(Max)(kHz): 100; Synchronous Rectification: TRUE; Vin(Max)(V): 36; Vin(Min)(V): 10; Vout(Max)(V): 30; Vout(Min)(V): 2.5; DatasheetVersion: SLUS286A; PackageVersion: revE, Dec-2002; PackageReference: N18; PackageDescription: 18-Pin Plastic Dual-In-Line Package, Row Spacing 7.62 mm, Pitch 2.54 mm; Supplier 1: Digi-Key; Supplier Part Number 1: UC2874N-2-ND; Supplier 2: Mouser; Supplier Part Number 2: 595-UC2874N-2; Eco-Plan: Green (RoHS & no Sb/Br); Topology: Buck; Mounting Technology: Through Hole; Code_JEDEC: MS-001-AC*; ComponentLink1Description: Datasheet; ComponentLink1URL: http://www.ti.com/general/docs/lit/getliterature.tsp?genericPartNumber=UC2874-2&fileType=pdf; ComponentLink2Description: Package Specification; ComponentLink2URL: http://www.ti.com/litv/pdf/mpds177g
footprint N18 (DIP, 18-Leads, Row Spacing 7.62mm, Pitch 2.54mm, Body 22.5x6.4mm)
pins: 1 GND (power) "All voltages are measured with respect to this pin. All bypass capacitors and timing components except those listed under the PGND pin description should be connected to this pin. Component leads should be as short and (See Datasheet)", 2 VSNS (in) "This pin is the inverting input of the voltage amplifier and serves as the output voltage feedback point for the synchronous regulator. It senses the output voltage through a voltage divider which produces a nominal 2.0V.", 3 COMP "This is the output of the voltage amplifier. It provides the current command signal to the current amplifier. The voltage is clamped to approximately 3.2V.", 4 SS (in) "A capacitor from this pin to GND in conjunction with an internal 10mA current source provides a soft start function for the IC. The voltage level on SS clamps the output of the voltage amplifier through an internal buffer, (See Datasheet)", 5 SB (in) "The voltage on SB sets the output current level at which standby mode is initiated. A voltage level from 0V to 1V programs the threshold from 50% to 0% of full load current. Full load current corresponds to a 100mV (See Datasheet)", 6 BOOT (power) "This pin provides the high side rail for the HDRIVE output. An external capacitor (CBST) is connected between this pin and the drain of the external low side MOSFET. When the low side MOSFET is conducting Cbst is charged to (See Datasheet)", 7 HDRIVE (out) "The outputs of the PWM are totem pole MOSFET gate drivers on the HDRIVE and LDRIVE pins. The outputs can sink approximately 1A and source 500mA. This characteristic optimizes the switching transitions by providing a (See Datasheet)", 8 PGND (power) "This is the high current ground for the IC. The MOSFET driver transistors are referenced to this ground. For best performance an external star ground connection should be made between this pin, the source of the low side (See Datasheet)", 9 LDRIVE (out) "The outputs of the PWM are totem pole MOSFET gate drivers on the HDRIVE and LDRIVE pins. The outputs can sink approximately 1A and source 500mA. This characteristic optimizes the switching transitions by providing a (See Datasheet)", 10 CAP "A capacitor is normally connected between this pin and GND providing bypass for the internal 11V regulator. Charge is transferred from this capacitor to CBST via an external diode when the low side MOSFET is conducting. If (See Datasheet)", 11 VCC (power) "Positive supply rail for the IC. Bypass this pin to GND with a 1uF low ESL/ESR ceramic capacitor. The maximum voltage for VCC is 36V. The turn on voltage level on VCC is 4.5V with 100mV of hysteresis for the UC3874-1 and 10V (See Datasheet)", 12 VREF (out) "VREF is the output of the precision reference. The output is capable of supplying 20mA to peripheral circuitry and is internally short circuit current limited. VREF is disabled and low whenever VCC is below the UVLO (See Datasheet)", 13 CT "A capacitor from CT to GND sets the PWM oscillator frequency. Use a high quality ceramic capacitor with low ESL and ESR for best results. A minimum CT value of 220pF insures good accuracy and less susceptibility to circuit (See Datasheet)", 14 CA- (in) "This is the inverting input to the current amplifier. Connect a series resistor and capacitor between this pin and CAOUT to set the current loop compensation. An input resistor between this pin and ISOUT provides the (See Datasheet)", 15 CAOUT (out) "This is the output of the wide bandwidth current amplifier and one of the inputs to the PWM duty cycle comparator. The output signal generated by this amplifier commands the PWM to force the correct duty cycle to maintain (See Datasheet)", 16 ISOUT (out) "This is the output of the X10 instrumentation amplifier. The output voltage on this pin is level shifted 2V above GND, such that if a 100mV differential input is applied across ISNS+ and ISNS-, the output will be 3V.", 17 ISNS- (in) "This is the inverting input to the X10 instrumentation amplifier. The common mode input range for this pin extends from GND to VCC. A low value resistor in series with the output inductor is connected between this pin and (See Datasheet)", 18 ISNS+ (in) "This is the non-inverting input to the X10 instrumentation amplifier. The common mode input range for this pin extends from GND to VCC."

## UC2874N-2G4
designator U?
High Efficiency, Synchronous, Step-down (Buck) Controller, 92 % Duty Cycle, 10 to 36 V, -40 to 85 degC, 18-pin PDIP (N), Green (RoHS & no Sb/Br); Manufacturer: Texas Instruments; PartNumber: UC2874N-2G4; Duty Cycle(Max)(%): 92; Iout(Max)(A): 0.5; Regulated Outputs(#): 1; SubFamily: Step-Down Controller; Switching Frequency(Max)(kHz): 100; Synchronous Rectification: TRUE; Vin(Max)(V): 36; Vin(Min)(V): 10; Vout(Max)(V): 30; Vout(Min)(V): 2.5; DatasheetVersion: SLUS286A; PackageVersion: revE, Dec-2002; PackageReference: N18; PackageDescription: 18-Pin Plastic Dual-In-Line Package, Row Spacing 7.62 mm, Pitch 2.54 mm; Supplier 1: Digi-Key; Supplier Part Number 1: UC2874N-2G4-ND; Supplier 2: Mouser; Supplier Part Number 2: 595-UC2874N-2G4; Eco-Plan: Green (RoHS & no Sb/Br); Topology: Buck; Mounting Technology: Through Hole; Code_JEDEC: MS-001-AC*; ComponentLink1Description: Datasheet; ComponentLink1URL: http://www.ti.com/general/docs/lit/getliterature.tsp?genericPartNumber=UC2874-2&fileType=pdf; ComponentLink2Description: Package Specification; ComponentLink2URL: http://www.ti.com/litv/pdf/mpds177g
footprint N18 (DIP, 18-Leads, Row Spacing 7.62mm, Pitch 2.54mm, Body 22.5x6.4mm)
pins: 1 GND (power) "All voltages are measured with respect to this pin. All bypass capacitors and timing components except those listed under the PGND pin description should be connected to this pin. Component leads should be as short and (See Datasheet)", 2 VSNS (in) "This pin is the inverting input of the voltage amplifier and serves as the output voltage feedback point for the synchronous regulator. It senses the output voltage through a voltage divider which produces a nominal 2.0V.", 3 COMP "This is the output of the voltage amplifier. It provides the current command signal to the current amplifier. The voltage is clamped to approximately 3.2V.", 4 SS (in) "A capacitor from this pin to GND in conjunction with an internal 10mA current source provides a soft start function for the IC. The voltage level on SS clamps the output of the voltage amplifier through an internal buffer, (See Datasheet)", 5 SB (in) "The voltage on SB sets the output current level at which standby mode is initiated. A voltage level from 0V to 1V programs the threshold from 50% to 0% of full load current. Full load current corresponds to a 100mV (See Datasheet)", 6 BOOT (power) "This pin provides the high side rail for the HDRIVE output. An external capacitor (CBST) is connected between this pin and the drain of the external low side MOSFET. When the low side MOSFET is conducting Cbst is charged to (See Datasheet)", 7 HDRIVE (out) "The outputs of the PWM are totem pole MOSFET gate drivers on the HDRIVE and LDRIVE pins. The outputs can sink approximately 1A and source 500mA. This characteristic optimizes the switching transitions by providing a (See Datasheet)", 8 PGND (power) "This is the high current ground for the IC. The MOSFET driver transistors are referenced to this ground. For best performance an external star ground connection should be made between this pin, the source of the low side (See Datasheet)", 9 LDRIVE (out) "The outputs of the PWM are totem pole MOSFET gate drivers on the HDRIVE and LDRIVE pins. The outputs can sink approximately 1A and source 500mA. This characteristic optimizes the switching transitions by providing a (See Datasheet)", 10 CAP "A capacitor is normally connected between this pin and GND providing bypass for the internal 11V regulator. Charge is transferred from this capacitor to CBST via an external diode when the low side MOSFET is conducting. If (See Datasheet)", 11 VCC (power) "Positive supply rail for the IC. Bypass this pin to GND with a 1uF low ESL/ESR ceramic capacitor. The maximum voltage for VCC is 36V. The turn on voltage level on VCC is 4.5V with 100mV of hysteresis for the UC3874-1 and 10V (See Datasheet)", 12 VREF (out) "VREF is the output of the precision reference. The output is capable of supplying 20mA to peripheral circuitry and is internally short circuit current limited. VREF is disabled and low whenever VCC is below the UVLO (See Datasheet)", 13 CT "A capacitor from CT to GND sets the PWM oscillator frequency. Use a high quality ceramic capacitor with low ESL and ESR for best results. A minimum CT value of 220pF insures good accuracy and less susceptibility to circuit (See Datasheet)", 14 CA- (in) "This is the inverting input to the current amplifier. Connect a series resistor and capacitor between this pin and CAOUT to set the current loop compensation. An input resistor between this pin and ISOUT provides the (See Datasheet)", 15 CAOUT (out) "This is the output of the wide bandwidth current amplifier and one of the inputs to the PWM duty cycle comparator. The output signal generated by this amplifier commands the PWM to force the correct duty cycle to maintain (See Datasheet)", 16 ISOUT (out) "This is the output of the X10 instrumentation amplifier. The output voltage on this pin is level shifted 2V above GND, such that if a 100mV differential input is applied across ISNS+ and ISNS-, the output will be 3V.", 17 ISNS- (in) "This is the inverting input to the X10 instrumentation amplifier. The common mode input range for this pin extends from GND to VCC. A low value resistor in series with the output inductor is connected between this pin and (See Datasheet)", 18 ISNS+ (in) "This is the non-inverting input to the X10 instrumentation amplifier. The common mode input range for this pin extends from GND to VCC."